# Altium schematic symbol library RK4.5T-0.5.Schlib: 1 symbol
Pins are listed as number, name and electrical type; pins without a type are passive.

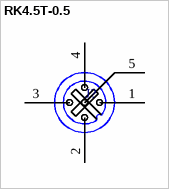
[diagram p0: symbol RK4.5T-0.5]

## RK4.5T-0.5
designator J?
pins: 1 Brown, 2 White, 3 Blue, 4 Black, 5 Grey